# Altium footprint library DXPpcb.PCBLIB: 575 footprints (part 16 of 36)
Each footprint in its own frame and in the unit in brackets; x right, y up, seen from the top. Pads: shape width x height; smd on the part's side, far side on the other; paste and mask are expansions set on the pad; w line width, h text height; cw(c..) or ccw(c..) is an arc to the next point about the centre after c.
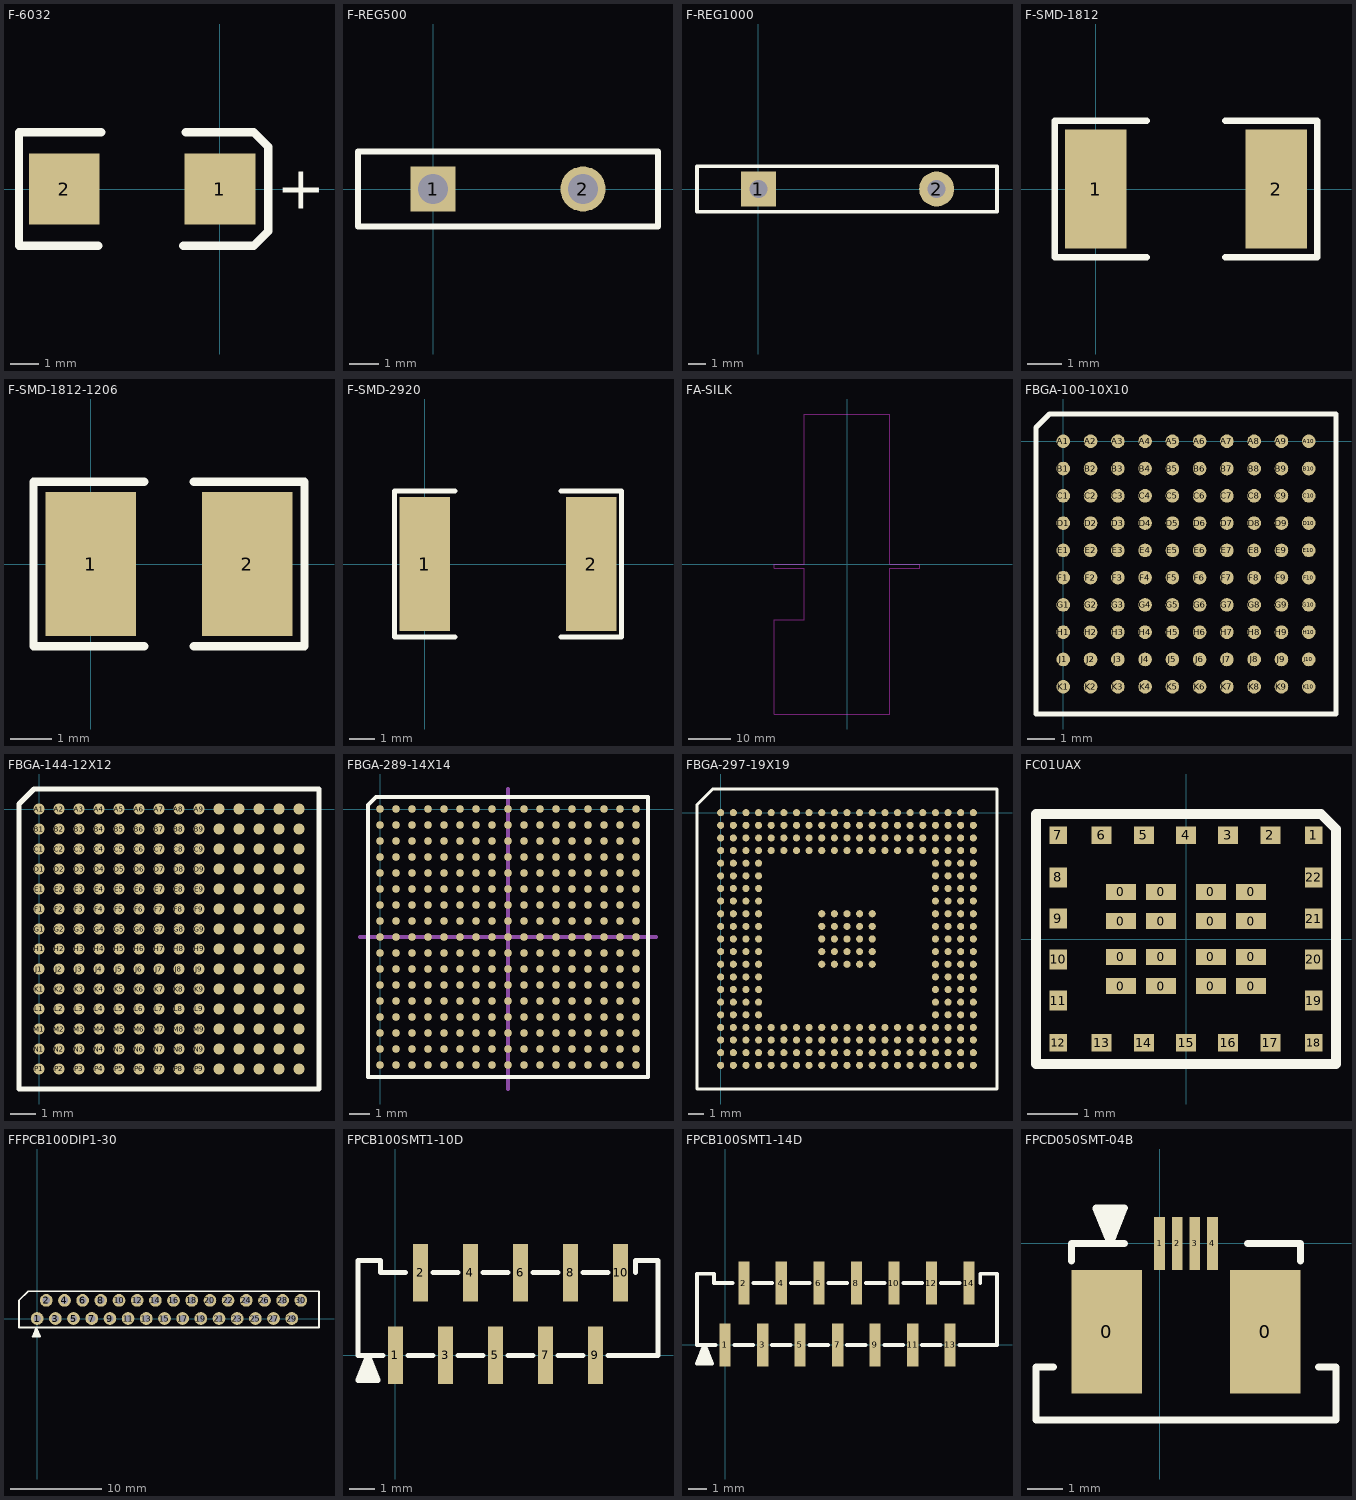
[diagram p15: the footprints below, top view; thin cyan lines are the x and y axes]

## F-6032 [mm]
pads (2):
  rect 2.5x2.5 smd: 1(0,0) 2(-5.5,0)
TopOverlay:
  lines w0.3: -4.3,-2 -7.1,-2 -7.1,2 -4.2,2 ; -1.3,-2 1.2,-2 1.7,-1.5 1.7,1.5 1.2,2 -1.2,2
  text "+" at 2,-0.7 h1.5

## F-REG500 [mil]
pads (2):
  rect 60x60 hole 40: 1(0,0)
  round 60 hole 40: 2(200,0)
TopOverlay:
  lines w7.87: -100,-50 300,-50 300,50 -100,50 -100,-50

## F-REG1000 [mm]
pads (2):
  rect 2x2 hole 1.016: 1(0,0)
  round 2 hole 1.016: 2(10.16,0)
TopOverlay:
  lines w0.2: -3.5,-1.3 13.6,-1.3 13.6,1.3 -3.5,1.3 -3.5,-1.3

## F-SMD-1812 [mm]
pads (2):
  rect 1.8x3.5 smd: 1(0,0) 2(5.3,0)
TopOverlay:
  lines w0.2: 1.5,-2 -1.2,-2 -1.2,2 1.5,2 ; 3.8,-2 6.5,-2 6.5,2 3.8,2

## F-SMD-1812-1206 [mm]
pads (2):
  rect 2.2x3.5 smd: 1(0,0) 2(3.8,0)
TopOverlay:
  lines w0.2: 1.3,-2 -1.4,-2 -1.4,2 1.3,2 ; 2.5,-2 5.2,-2 5.2,2 2.5,2

## F-SMD-2920 [mm]
pads (2):
  rect 2x5.3 smd: 1(0,0) 2(6.6,0)
TopOverlay:
  lines w0.2: 1.2,-2.9 -1.2,-2.9 -1.2,2.9 1.2,2.9 ; 5.4,-2.9 7.8,-2.9 7.8,2.9 5.4,2.9

## FA-SILK [mm]
KeepOutLayer:
  lines w0.2: -17,-35 10,-35 10,-1 17,-1 17,0 10,0 10,35 -10,35 -10,0 -17,0 -17,-1 -10,-1 -10,-13 -17,-13 -17,-35

## FBGA-100-10X10 [mm]
pads (100):
  round 0.5 smd: A1(0,0) A2(1,0) A3(2,0) A4(3,0) A5(4,0) A6(5,0) A7(6,0) A8(7,0) A9(8,0) A10(9,0) B1(0,-1) B2(1,-1) B3(2,-1) B4(3,-1) B5(4,-1) B6(5,-1) B7(6,-1) B8(7,-1) B9(8,-1) B10(9,-1) C1(0,-2) C2(1,-2) C3(2,-2) C4(3,-2) C5(4,-2) C6(5,-2) C7(6,-2) C8(7,-2) C9(8,-2) C10(9,-2) D1(0,-3) D2(1,-3) D3(2,-3) D4(3,-3) D5(4,-3) D6(5,-3) D7(6,-3) D8(7,-3) D9(8,-3) D10(9,-3) E1(0,-4) E2(1,-4) E3(2,-4) E4(3,-4) E5(4,-4) E6(5,-4) E7(6,-4) E8(7,-4) E9(8,-4) E10(9,-4) F1(0,-5) F2(1,-5) F3(2,-5) F4(3,-5) F5(4,-5) F6(5,-5) F7(6,-5) F8(7,-5) F9(8,-5) F10(9,-5) G1(0,-6) G2(1,-6) G3(2,-6) G4(3,-6) G5(4,-6) G6(5,-6) G7(6,-6) G8(7,-6) G9(8,-6) G10(9,-6) H1(0,-7) H2(1,-7) H3(2,-7) H4(3,-7) H5(4,-7) H6(5,-7) H7(6,-7) H8(7,-7) H9(8,-7) H10(9,-7) J1(0,-8) J2(1,-8) J3(2,-8) J4(3,-8) J5(4,-8) J6(5,-8) J7(6,-8) J8(7,-8) J9(8,-8) J10(9,-8) K1(0,-9) K2(1,-9) K3(2,-9) K4(3,-9) K5(4,-9) K6(5,-9) K7(6,-9) K8(7,-9) K9(8,-9) K10(9,-9)
TopOverlay:
  lines w0.2: -1,-10 10,-10 10,1 -0.5,1 -1,0.5 -1,-10

## FBGA-144-12X12 [mm]
pads (196):
  round 0.45 smd: A1(0,0) A2(0.8,0) A3(1.6,0) A4(2.4,0) A5(3.2,0) A6(4,0) A7(4.8,0) A8(5.6,0) A9(6.4,0) A10(7.2,0) A11(8,0) A12(8.8,0) A13(9.6,0) A14(10.4,0) B1(0,-0.8) B2(0.8,-0.8) B3(1.6,-0.8) B4(2.4,-0.8) B5(3.2,-0.8) B6(4,-0.8) B7(4.8,-0.8) B8(5.6,-0.8) B9(6.4,-0.8) B10(7.2,-0.8) B11(8,-0.8) B12(8.8,-0.8) B13(9.6,-0.8) B14(10.4,-0.8) C1(0,-1.6) C2(0.8,-1.6) C3(1.6,-1.6) C4(2.4,-1.6) C5(3.2,-1.6) C6(4,-1.6) C7(4.8,-1.6) C8(5.6,-1.6) C9(6.4,-1.6) C10(7.2,-1.6) C11(8,-1.6) C12(8.8,-1.6) C13(9.6,-1.6) C14(10.4,-1.6) D1(0,-2.4) D2(0.8,-2.4) D3(1.6,-2.4) D4(2.4,-2.4) D5(3.2,-2.4) D6(4,-2.4) D7(4.8,-2.4) D8(5.6,-2.4) D9(6.4,-2.4) D10(7.2,-2.4) D11(8,-2.4) D12(8.8,-2.4) D13(9.6,-2.4) D14(10.4,-2.4) E1(0,-3.2) E2(0.8,-3.2) E3(1.6,-3.2) E4(2.4,-3.2) E5(3.2,-3.2) E6(4,-3.2) E7(4.8,-3.2) E8(5.6,-3.2) E9(6.4,-3.2) E10(7.2,-3.2) E11(8,-3.2) E12(8.8,-3.2) E13(9.6,-3.2) E14(10.4,-3.2) F1(0,-4) F2(0.8,-4) F3(1.6,-4) F4(2.4,-4) F5(3.2,-4) F6(4,-4) F7(4.8,-4) F8(5.6,-4) F9(6.4,-4) F10(7.2,-4) F11(8,-4) F12(8.8,-4) F13(9.6,-4) F14(10.4,-4) G1(0,-4.8) G2(0.8,-4.8) G3(1.6,-4.8) G4(2.4,-4.8) G5(3.2,-4.8) G6(4,-4.8) G7(4.8,-4.8) G8(5.6,-4.8) G9(6.4,-4.8) G10(7.2,-4.8) G11(8,-4.8) G12(8.8,-4.8) G13(9.6,-4.8) G14(10.4,-4.8) H1(0,-5.6) H2(0.8,-5.6) H3(1.6,-5.6) H4(2.4,-5.6) H5(3.2,-5.6) H6(4,-5.6) H7(4.8,-5.6) H8(5.6,-5.6) H9(6.4,-5.6) H10(7.2,-5.6) H11(8,-5.6) H12(8.8,-5.6) H13(9.6,-5.6) H14(10.4,-5.6) J1(0,-6.4) J2(0.8,-6.4) J3(1.6,-6.4) J4(2.4,-6.4) J5(3.2,-6.4) J6(4,-6.4) J7(4.8,-6.4) J8(5.6,-6.4) J9(6.4,-6.4) J10(7.2,-6.4) J11(8,-6.4) J12(8.8,-6.4) J13(9.6,-6.4) J14(10.4,-6.4) K1(0,-7.2) K2(0.8,-7.2) K3(1.6,-7.2) K4(2.4,-7.2) K5(3.2,-7.2) K6(4,-7.2) K7(4.8,-7.2) K8(5.6,-7.2) K9(6.4,-7.2) K10(7.2,-7.2) K11(8,-7.2) K12(8.8,-7.2) K13(9.6,-7.2) K14(10.4,-7.2) L1(0,-8) L2(0.8,-8) L3(1.6,-8) L4(2.4,-8) L5(3.2,-8) L6(4,-8) L7(4.8,-8) L8(5.6,-8) L9(6.4,-8) L10(7.2,-8) L11(8,-8) L12(8.8,-8) L13(9.6,-8) L14(10.4,-8) M1(0,-8.8) M2(0.8,-8.8) M3(1.6,-8.8) M4(2.4,-8.8) M5(3.2,-8.8) M6(4,-8.8) M7(4.8,-8.8) M8(5.6,-8.8) M9(6.4,-8.8) M10(7.2,-8.8) M11(8,-8.8) M12(8.8,-8.8) M13(9.6,-8.8) M14(10.4,-8.8) N1(0,-9.6) N2(0.8,-9.6) N3(1.6,-9.6) N4(2.4,-9.6) N5(3.2,-9.6) N6(4,-9.6) N7(4.8,-9.6) N8(5.6,-9.6) N9(6.4,-9.6) N10(7.2,-9.6) N11(8,-9.6) N12(8.8,-9.6) N13(9.6,-9.6) N14(10.4,-9.6) P1(0,-10.4) P2(0.8,-10.4) P3(1.6,-10.4) P4(2.4,-10.4) P5(3.2,-10.4) P6(4,-10.4) P7(4.8,-10.4) P8(5.6,-10.4) P9(6.4,-10.4) P10(7.2,-10.4) P11(8,-10.4) P12(8.8,-10.4) P13(9.6,-10.4) P14(10.4,-10.4)
TopOverlay:
  lines w0.2: -0.8,-11.2 11.2,-11.2 11.2,0.8 -0.2,0.8 -0.8,0.2 -0.8,-11.2

## FBGA-289-14X14 [mm]
pads (289):
  round 0.38 smd: A1(0,0) A2(0.8,0) A3(1.6,0) A4(2.4,0) A5(3.2,0) A6(4,0) A7(4.8,0) A8(5.6,0) A9(6.4,0) A10(7.2,0) A11(8,0) A12(8.8,0) A13(9.6,0) A14(10.4,0) A15(11.2,0) A16(12,0) A17(12.8,0) B1(0,-0.8) B2(0.8,-0.8) B3(1.6,-0.8) B4(2.4,-0.8) B5(3.2,-0.8) B6(4,-0.8) B7(4.8,-0.8) B8(5.6,-0.8) B9(6.4,-0.8) B10(7.2,-0.8) B11(8,-0.8) B12(8.8,-0.8) B13(9.6,-0.8) B14(10.4,-0.8) B15(11.2,-0.8) B16(12,-0.8) B17(12.8,-0.8) C1(0,-1.6) C2(0.8,-1.6) C3(1.6,-1.6) C4(2.4,-1.6) C5(3.2,-1.6) C6(4,-1.6) C7(4.8,-1.6) C8(5.6,-1.6) C9(6.4,-1.6) C10(7.2,-1.6) C11(8,-1.6) C12(8.8,-1.6) C13(9.6,-1.6) C14(10.4,-1.6) C15(11.2,-1.6) C16(12,-1.6) C17(12.8,-1.6) D1(0,-2.4) D2(0.8,-2.4) D3(1.6,-2.4) D4(2.4,-2.4) D5(3.2,-2.4) D6(4,-2.4) D7(4.8,-2.4) D8(5.6,-2.4) D9(6.4,-2.4) D10(7.2,-2.4) D11(8,-2.4) D12(8.8,-2.4) D13(9.6,-2.4) D14(10.4,-2.4) D15(11.2,-2.4) D16(12,-2.4) D17(12.8,-2.4) E1(0,-3.2) E2(0.8,-3.2) E3(1.6,-3.2) E4(2.4,-3.2) E5(3.2,-3.2) E6(4,-3.2) E7(4.8,-3.2) E8(5.6,-3.2) E9(6.4,-3.2) E10(7.2,-3.2) E11(8,-3.2) E12(8.8,-3.2) E13(9.6,-3.2) E14(10.4,-3.2) E15(11.2,-3.2) E16(12,-3.2) E17(12.8,-3.2) F1(0,-4) F2(0.8,-4) F3(1.6,-4) F4(2.4,-4) F5(3.2,-4) F6(4,-4) F7(4.8,-4) F8(5.6,-4) F9(6.4,-4) F10(7.2,-4) F11(8,-4) F12(8.8,-4) F13(9.6,-4) F14(10.4,-4) F15(11.2,-4) F16(12,-4) F17(12.8,-4) G1(0,-4.8) G2(0.8,-4.8) G3(1.6,-4.8) G4(2.4,-4.8) G5(3.2,-4.8) G6(4,-4.8) G7(4.8,-4.8) G8(5.6,-4.8) G9(6.4,-4.8) G10(7.2,-4.8) G11(8,-4.8) G12(8.8,-4.8) G13(9.6,-4.8) G14(10.4,-4.8) G15(11.2,-4.8) G16(12,-4.8) G17(12.8,-4.8) H1(0,-5.6) H2(0.8,-5.6) H3(1.6,-5.6) H4(2.4,-5.6) H5(3.2,-5.6) H6(4,-5.6) H7(4.8,-5.6) H8(5.6,-5.6) H9(6.4,-5.6) H10(7.2,-5.6) H11(8,-5.6) H12(8.8,-5.6) H13(9.6,-5.6) H14(10.4,-5.6) H15(11.2,-5.6) H16(12,-5.6) H17(12.8,-5.6) J1(0,-6.4) J2(0.8,-6.4) J3(1.6,-6.4) J4(2.4,-6.4) J5(3.2,-6.4) J6(4,-6.4) J7(4.8,-6.4) J8(5.6,-6.4) J9(6.4,-6.4) J10(7.2,-6.4) J11(8,-6.4) J12(8.8,-6.4) J13(9.6,-6.4) J14(10.4,-6.4) J15(11.2,-6.4) J16(12,-6.4) J17(12.8,-6.4) K1(0,-7.2) K2(0.8,-7.2) K3(1.6,-7.2) K4(2.4,-7.2) K5(3.2,-7.2) K6(4,-7.2) K7(4.8,-7.2) K8(5.6,-7.2) K9(6.4,-7.2) K10(7.2,-7.2) K11(8,-7.2) K12(8.8,-7.2) K13(9.6,-7.2) K14(10.4,-7.2) K15(11.2,-7.2) K16(12,-7.2) K17(12.8,-7.2) L1(0,-8) L2(0.8,-8) L3(1.6,-8) L4(2.4,-8) L5(3.2,-8) L6(4,-8) L7(4.8,-8) L8(5.6,-8) L9(6.4,-8) L10(7.2,-8) L11(8,-8) L12(8.8,-8) L13(9.6,-8) L14(10.4,-8) L15(11.2,-8) L16(12,-8) L17(12.8,-8) M1(0,-8.8) M2(0.8,-8.8) M3(1.6,-8.8) M4(2.4,-8.8) M5(3.2,-8.8) M6(4,-8.8) M7(4.8,-8.8) M8(5.6,-8.8) M9(6.4,-8.8) M10(7.2,-8.8) M11(8,-8.8) M12(8.8,-8.8) M13(9.6,-8.8) M14(10.4,-8.8) M15(11.2,-8.8) M16(12,-8.8) M17(12.8,-8.8) N1(0,-9.6) N2(0.8,-9.6) N3(1.6,-9.6) N4(2.4,-9.6) N5(3.2,-9.6) N6(4,-9.6) N7(4.8,-9.6) N8(5.6,-9.6) N9(6.4,-9.6) N10(7.2,-9.6) N11(8,-9.6) N12(8.8,-9.6) N13(9.6,-9.6) N14(10.4,-9.6) N15(11.2,-9.6) N16(12,-9.6) N17(12.8,-9.6) P1(0,-10.4) P2(0.8,-10.4) P3(1.6,-10.4) P4(2.4,-10.4) P5(3.2,-10.4) P6(4,-10.4) P7(4.8,-10.4) P8(5.6,-10.4) P9(6.4,-10.4) P10(7.2,-10.4) P11(8,-10.4) P12(8.8,-10.4) P13(9.6,-10.4) P14(10.4,-10.4) P15(11.2,-10.4) P16(12,-10.4) P17(12.8,-10.4) R1(0,-11.2) R2(0.8,-11.2) R3(1.6,-11.2) R4(2.4,-11.2) R5(3.2,-11.2) R6(4,-11.2) R7(4.8,-11.2) R8(5.6,-11.2) R9(6.4,-11.2) R10(7.2,-11.2) R11(8,-11.2) R12(8.8,-11.2) R13(9.6,-11.2) R14(10.4,-11.2) R15(11.2,-11.2) R16(12,-11.2) R17(12.8,-11.2) T1(0,-12) T2(0.8,-12) T3(1.6,-12) T4(2.4,-12) T5(3.2,-12) T6(4,-12) T7(4.8,-12) T8(5.6,-12) T9(6.4,-12) T10(7.2,-12) T11(8,-12) T12(8.8,-12) T13(9.6,-12) T14(10.4,-12) T15(11.2,-12) T16(12,-12) T17(12.8,-12) U1(0,-12.8) U2(0.8,-12.8) U3(1.6,-12.8) U4(2.4,-12.8) U5(3.2,-12.8) U6(4,-12.8) U7(4.8,-12.8) U8(5.6,-12.8) U9(6.4,-12.8) U10(7.2,-12.8) U11(8,-12.8) U12(8.8,-12.8) U13(9.6,-12.8) U14(10.4,-12.8) U15(11.2,-12.8) U16(12,-12.8) U17(12.8,-12.8)
TopOverlay:
  lines w0.2: -0.6,-13.4 -0.6,0.2 -0.2,0.6 13.4,0.6 13.4,-13.4 -0.6,-13.4
Mechanical3:
  lines w0.2: -1,-6.4 13.8,-6.4 ; 6.4,-14 6.4,1

## FBGA-297-19X19 [mm]
pads (297):
  round 0.45 smd: A1(0,0) A2(0.8,0) A3(1.6,0) A4(2.4,0) A5(3.2,0) A6(4,0) A7(4.8,0) A8(5.6,0) A9(6.4,0) A10(7.2,0) A11(8,0) A12(8.8,0) A13(9.6,0) A14(10.4,0) A15(11.2,0) A16(12,0) A17(12.8,0) A18(13.6,0) A19(14.4,0) A20(15.2,0) A21(16,0) AA1(0,-16) AA2(0.8,-16) AA3(1.6,-16) AA4(2.4,-16) AA5(3.2,-16) AA6(4,-16) AA7(4.8,-16) AA8(5.6,-16) AA9(6.4,-16) AA10(7.2,-16) AA11(8,-16) AA12(8.8,-16) AA13(9.6,-16) AA14(10.4,-16) AA15(11.2,-16) AA16(12,-16) AA17(12.8,-16) AA18(13.6,-16) AA19(14.4,-16) AA20(15.2,-16) AA21(16,-16) B1(0,-0.8) B2(0.8,-0.8) B3(1.6,-0.8) B4(2.4,-0.8) B5(3.2,-0.8) B6(4,-0.8) B7(4.8,-0.8) B8(5.6,-0.8) B9(6.4,-0.8) B10(7.2,-0.8) B11(8,-0.8) B12(8.8,-0.8) B13(9.6,-0.8) B14(10.4,-0.8) B15(11.2,-0.8) B16(12,-0.8) B17(12.8,-0.8) B18(13.6,-0.8) B19(14.4,-0.8) B20(15.2,-0.8) B21(16,-0.8) C1(0,-1.6) C2(0.8,-1.6) C3(1.6,-1.6) C4(2.4,-1.6) C5(3.2,-1.6) C6(4,-1.6) C7(4.8,-1.6) C8(5.6,-1.6) C9(6.4,-1.6) C10(7.2,-1.6) C11(8,-1.6) C12(8.8,-1.6) C13(9.6,-1.6) C14(10.4,-1.6) C15(11.2,-1.6) C16(12,-1.6) C17(12.8,-1.6) C18(13.6,-1.6) C19(14.4,-1.6) C20(15.2,-1.6) C21(16,-1.6) D1(0,-2.4) D2(0.8,-2.4) D3(1.6,-2.4) D4(2.4,-2.4) D5(3.2,-2.4) D6(4,-2.4) D7(4.8,-2.4) D8(5.6,-2.4) D9(6.4,-2.4) D10(7.2,-2.4) D11(8,-2.4) D12(8.8,-2.4) D13(9.6,-2.4) D14(10.4,-2.4) D15(11.2,-2.4) D16(12,-2.4) D17(12.8,-2.4) D18(13.6,-2.4) D19(14.4,-2.4) D20(15.2,-2.4) D21(16,-2.4) E1(0,-3.2) E2(0.8,-3.2) E3(1.6,-3.2) E4(2.4,-3.2) E18(13.6,-3.2) E19(14.4,-3.2) E20(15.2,-3.2) E21(16,-3.2) F1(0,-4) F2(0.8,-4) F3(1.6,-4) F4(2.4,-4) F18(13.6,-4) F19(14.4,-4) F20(15.2,-4) F21(16,-4) G1(0,-4.8) G2(0.8,-4.8) G3(1.6,-4.8) G4(2.4,-4.8) G18(13.6,-4.8) G19(14.4,-4.8) G20(15.2,-4.8) G21(16,-4.8) H1(0,-5.6) H2(0.8,-5.6) H3(1.6,-5.6) H4(2.4,-5.6) H18(13.6,-5.6) H19(14.4,-5.6) H20(15.2,-5.6) H21(16,-5.6) J1(0,-6.4) J2(0.8,-6.4) J3(1.6,-6.4) J4(2.4,-6.4) J9(6.4,-6.4) J10(7.2,-6.4) J11(8,-6.4) J12(8.8,-6.4) J13(9.6,-6.4) J18(13.6,-6.4) J19(14.4,-6.4) J20(15.2,-6.4) J21(16,-6.4) K1(0,-7.2) K2(0.8,-7.2) K3(1.6,-7.2) K4(2.4,-7.2) K9(6.4,-7.2) K10(7.2,-7.2) K11(8,-7.2) K12(8.8,-7.2) K13(9.6,-7.2) K18(13.6,-7.2) K19(14.4,-7.2) K20(15.2,-7.2) K21(16,-7.2) L1(0,-8) L2(0.8,-8) L3(1.6,-8) L4(2.4,-8) L9(6.4,-8) L10(7.2,-8) L11(8,-8) L12(8.8,-8) L13(9.6,-8) L18(13.6,-8) L19(14.4,-8) L20(15.2,-8) L21(16,-8) M1(0,-8.8) M2(0.8,-8.8) M3(1.6,-8.8) M4(2.4,-8.8) M9(6.4,-8.8) M10(7.2,-8.8) M11(8,-8.8) M12(8.8,-8.8) M13(9.6,-8.8) M18(13.6,-8.8) M19(14.4,-8.8) M20(15.2,-8.8) M21(16,-8.8) N1(0,-9.6) N2(0.8,-9.6) N3(1.6,-9.6) N4(2.4,-9.6) N9(6.4,-9.6) N10(7.2,-9.6) N11(8,-9.6) N12(8.8,-9.6) N13(9.6,-9.6) N18(13.6,-9.6) N19(14.4,-9.6) N20(15.2,-9.6) N21(16,-9.6) P1(0,-10.4) P2(0.8,-10.4) P3(1.6,-10.4) P4(2.4,-10.4) P18(13.6,-10.4) P19(14.4,-10.4) P20(15.2,-10.4) P21(16,-10.4) R1(0,-11.2) R2(0.8,-11.2) R3(1.6,-11.2) R4(2.4,-11.2) R18(13.6,-11.2) R19(14.4,-11.2) R20(15.2,-11.2) R21(16,-11.2) T1(0,-12) T2(0.8,-12) T3(1.6,-12) T4(2.4,-12) T18(13.6,-12) T19(14.4,-12) T20(15.2,-12) T21(16,-12) U1(0,-12.8) U2(0.8,-12.8) U3(1.6,-12.8) U4(2.4,-12.8) U18(13.6,-12.8) U19(14.4,-12.8) U20(15.2,-12.8) U21(16,-12.8) V1(0,-13.6) V2(0.8,-13.6) V3(1.6,-13.6) V4(2.4,-13.6) V5(3.2,-13.6) V6(4,-13.6) V7(4.8,-13.6) V8(5.6,-13.6) V9(6.4,-13.6) V10(7.2,-13.6) V11(8,-13.6) V12(8.8,-13.6) V13(9.6,-13.6) V14(10.4,-13.6) V15(11.2,-13.6) V16(12,-13.6) V17(12.8,-13.6) V18(13.6,-13.6) V19(14.4,-13.6) V20(15.2,-13.6) V21(16,-13.6) W1(0,-14.4) W2(0.8,-14.4) W3(1.6,-14.4) W4(2.4,-14.4) W5(3.2,-14.4) W6(4,-14.4) W7(4.8,-14.4) W8(5.6,-14.4) W9(6.4,-14.4) W10(7.2,-14.4) W11(8,-14.4) W12(8.8,-14.4) W13(9.6,-14.4) W14(10.4,-14.4) W15(11.2,-14.4) W16(12,-14.4) W17(12.8,-14.4) W18(13.6,-14.4) W19(14.4,-14.4) W20(15.2,-14.4) W21(16,-14.4) Y1(0,-15.2) Y2(0.8,-15.2) Y3(1.6,-15.2) Y4(2.4,-15.2) Y5(3.2,-15.2) Y6(4,-15.2) Y7(4.8,-15.2) Y8(5.6,-15.2) Y9(6.4,-15.2) Y10(7.2,-15.2) Y11(8,-15.2) Y12(8.8,-15.2) Y13(9.6,-15.2) Y14(10.4,-15.2) Y15(11.2,-15.2) Y16(12,-15.2) Y17(12.8,-15.2) Y18(13.6,-15.2) Y19(14.4,-15.2) Y20(15.2,-15.2) Y21(16,-15.2)
TopOverlay:
  lines w0.2: -1.5,-17.5 -1.5,0.5 -0.5,1.5 17.5,1.5 17.5,-17.5 -1.5,-17.5

## FC01UAX [mm]
pads (38):
  rect 0.6x0.32 smd: 0(-1.3,-0.94) 0(-1.3,-0.36) 0(-1.3,0.36) 0(-1.3,0.94) 0(-0.5,-0.94) 0(-0.5,-0.36) 0(-0.5,0.36) 0(-0.5,0.94) 0(0.5,-0.94) 0(0.5,-0.36) 0(0.5,0.36) 0(0.5,0.94) 0(1.3,-0.94) 0(1.3,-0.36) 0(1.3,0.36) 0(1.3,0.94)
  rect 0.35x0.35 smd: 1(2.554,2.075) 7(-2.554,2.075) 12(-2.554,-2.075) 18(2.554,-2.075)
  rect 0.4x0.35 smd: 2(1.686,2.075) 3(0.843,2.075) 4(0,2.075) 5(-0.843,2.075) 6(-1.686,2.075) 13(-1.686,-2.075) 14(-0.843,-2.075) 15(0,-2.075) 16(0.843,-2.075) 17(1.686,-2.075)
  rect 0.35x0.4 smd: 8(-2.554,1.23) 9(-2.554,0.41) 10(-2.554,-0.41) 11(-2.554,-1.23) 19(2.554,-1.23) 20(2.554,-0.41) 21(2.554,0.41) 22(2.554,1.23)
TopOverlay:
  lines w0.2: -3,-2.5 -3,2.5 2.7,2.5 3,2.2 3,-2.5 -3,-2.5

## FFPCB100DIP1-30 [mm]
pads (30):
  round 1.4 hole 0.8: 1(0,0) 2(1,2) 3(2,0) 4(3,2) 5(4,0) 6(5,2) 7(6,0) 8(7,2) 9(8,0) 10(9,2) 11(10,0) 12(11,2) 13(12,0) 14(13,2) 15(14,0) 16(15,2) 17(16,0) 18(17,2) 19(18,0) 20(19,2) 21(20,0) 22(21,2) 23(22,0) 24(23,2) 25(24,0) 26(25,2) 27(26,0) 28(27,2) 29(28,0) 30(29,2)
TopOverlay:
  lines w0.2: -0.3,-2 -0.2,-1.5 ; -0.1,-2 -0.1,-1 ; 0,-1.4 0.1,-2 ; -0.1,-1 -0.5,-2 0.3,-2 -0.1,-1 ; -2,-1 -2,2 -1,3 31,3 31,-1 -2,-1

## FPCB100SMT1-10D [mm]
pads (10):
  rect 0.6x2.3 smd: 1(0,0) 2(1,3.3) 3(2,0) 4(3,3.3) 5(4,0) 6(5,3.3) 7(6,0) 8(7,3.3) 9(8,0) 10(9,3.3)
TopOverlay:
  lines w0.2: -1.3,-1 -1.2,-0.5 ; -1.1,-1 -1.1,0 ; -1,-0.4 -0.9,-1 ; -0.5,0 -1.5,0 -1.5,0.4 -1.5,3.8 -0.6,3.8 -0.6,3.3 0.4,3.3 ; 0.5,0 1.5,0 ; 1.5,3.3 2.5,3.3 ; 2.5,0 3.5,0 ; 3.5,3.3 4.5,3.3 ; 4.5,0 5.5,0 ; 5.5,3.3 6.5,3.3 ; 6.5,0 7.5,0 ; 7.5,3.3 8.5,3.3 ; 8.5,0 10.5,0 10.5,3.8 9.6,3.8 9.6,3.3 ; -1.1,0 -1.5,-1 -0.7,-1 -1.1,0

## FPCB100SMT1-14D [mm]
pads (14):
  rect 0.6x2.3 smd: 1(0,0) 2(1,3.3) 3(2,0) 4(3,3.3) 5(4,0) 6(5,3.3) 7(6,0) 8(7,3.3) 9(8,0) 10(9,3.3) 11(10,0) 12(11,3.3) 13(12,0) 14(13,3.3)
TopOverlay:
  lines w0.2: -1.3,-1 -1.2,-0.5 ; -1.1,-1 -1.1,0 ; -1,-0.4 -0.9,-1 ; -0.5,0 -1.5,0 -1.5,0.4 -1.5,3.8 -0.6,3.8 -0.6,3.3 0.4,3.3 ; 0.5,0 1.5,0 ; 1.5,3.3 2.5,3.3 ; 2.5,0 3.5,0 ; 3.5,3.3 4.5,3.3 ; 4.5,0 5.5,0 ; 5.5,3.3 6.5,3.3 ; 6.5,0 7.5,0 ; 7.5,3.3 8.5,3.3 ; 8.5,0 9.5,0 ; 9.5,3.3 10.5,3.3 ; 10.5,0 11.5,0 ; 11.5,3.3 12.5,3.3 ; 12.5,0 14.5,0 14.5,3.8 13.6,3.8 13.6,3.3 ; -1.1,0 -0.7,-1 -1.5,-1 -1.1,0

## FPCD050SMT-04B [mm]
pads (6):
  rect 2x3.5 smd: 0(-1.5,-2.5) 0(3,-2.5)
  rect 0.3x1.5 smd: 1(0,0) 2(0.5,0) 3(1,0) 4(1.5,0)
TopOverlay:
  lines w0.2: -3,-3.5 -3.5,-3.5 -3.5,-5 5,-5 5,-3.5 4.5,-3.5 ; -2.5,-0.5 -2.5,0 -1.5,0 -1,0 ; -1.6,1 -1.5,0.4 ; -1.4,1 -1.4,0 ; -1.3,0.5 -1.2,1 ; 2.5,0 3,0 4,0 4,-0.5 ; -1.4,0 -1.8,1 -1,1 -1.4,0